# EAGLE library part 338070-16_S (library con-te-micro-match)
RECEPTACAL
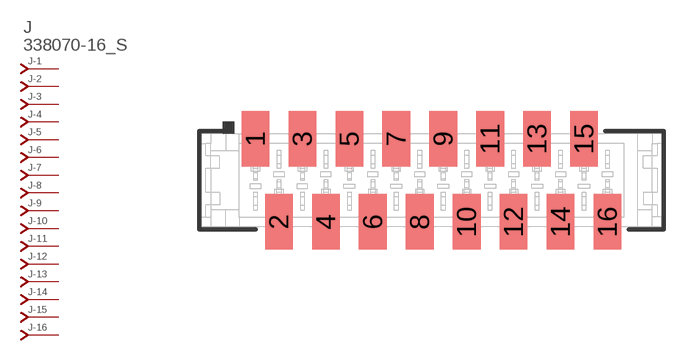
[diagram p13: symbol with the pads of 338070-16; footprint 338070-16]

Designator prefix J; gates -1=J-NV -2=J-N -3=J-N -4=J-N -5=J-N -6=J-N -7=J-N -8=J-N -9=J-N -10=J-N -11=J-N -12=J-N -13=J-N -14=J-N -15=J-N -16=J-N

## 338070-16_S  [338070-16]
1  -1:J  pas
2  -2:J  pas
3  -3:J  pas
4  -4:J  pas
5  -5:J  pas
6  -6:J  pas
7  -7:J  pas
8  -8:J  pas
9  -9:J  pas
10  -10:J  pas
11  -11:J  pas
12  -12:J  pas
13  -13:J  pas
14  -14:J  pas
15  -15:J  pas
16  -16:J  pas

## Footprint 338070-16 (pad centres in mm)
RECEPTACAL
smd 1.5 x 3: 1 -9.525,2.25; 2 -8.255,-2.25; 3 -6.985,2.25; 4 -5.715,-2.25; 5 -4.445,2.25; 6 -3.175,-2.25; 7 -1.905,2.25; 8 -0.635,-2.25; 9 0.635,2.25; 10 1.905,-2.25; 11 3.175,2.25; 12 4.445,-2.25; 13 5.715,2.25; 14 6.985,-2.25; 15 8.255,2.25; 16 9.525,-2.25